# EAGLE library part ISP4520* (library ISP4520)
ISP4520 Combined BLE and LoRa Module Based on the Nordic nRF52832 Bluetooth Low Energy Chip and Semtech SX126x LoRa Transceiver together with Integrated Antennas, matching networks, crystals, DC/DC power supply, NFC and 512kByte Flash and 64kByte SRAM DATASHEET ISP4520xx <https://www.insightsip.com/fichiers_insightsip/pdf/ble/ISP4520/isp_lora_DS4520.pdf>
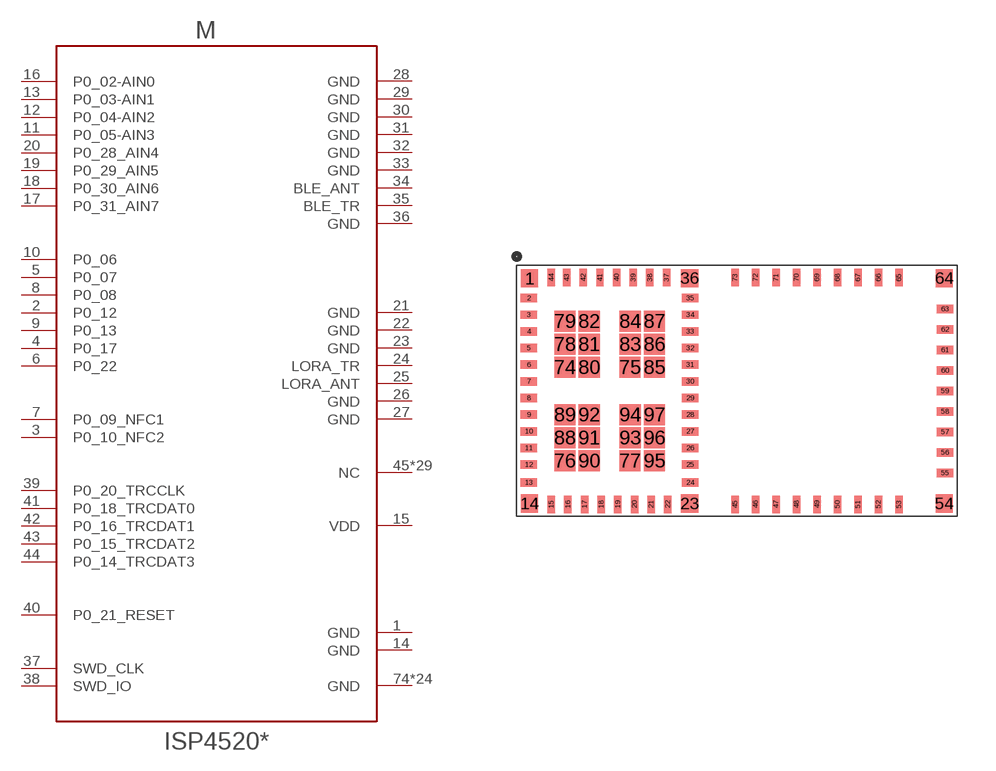
[diagram p0: symbol with the pads of ISP4520-LGA-QFN74-9.8X17.2X1.7MM; footprint ISP4520-LGA-QFN74-9.8X17.2X1.7MM]

Designator prefix M

## ISP4520EU, ISP4520JP, ISP4520US  [ISP4520-LGA-QFN74-9.8X17.2X1.7MM]
1  GND  pwr
2  P0_12
3  P0_10_NFC2
4  P0_17
5  P0_07
6  P0_22
7  P0_09_NFC1
8  P0_08
9  P0_13
10  P0_06
11  P0_05-AIN3
12  P0_04-AIN2
13  P0_03-AIN1
14  GND  pwr
15  VDD  pwr
16  P0_02-AIN0
17  P0_31_AIN7
18  P0_30_AIN6
19  P0_29_AIN5
20  P0_28_AIN4
21  GND  pwr
22  GND  pwr
23  GND  pwr
24  LORA_TR  pwr
25  LORA_ANT  pwr
26  GND  pwr
27  GND  pwr
28  GND  pwr
29  GND  pwr
30  GND  pwr
31  GND  pwr
32  GND  pwr
33  GND  pwr
34  BLE_ANT
35  BLE_TR
36  GND  pwr
37  SWD_CLK
38  SWD_IO
39  P0_20_TRCCLK
40  P0_21_RESET
41  P0_18_TRCDAT0
42  P0_16_TRCDAT1
43  P0_15_TRCDAT2
44  P0_14_TRCDAT3
45  NC  nc
46  NC  nc
47  NC  nc
48  NC  nc
49  NC  nc
50  NC  nc
51  NC  nc
52  NC  nc
53  NC  nc
54  NC  nc
55  NC  nc
56  NC  nc
57  NC  nc
58  NC  nc
59  NC  nc
60  NC  nc
61  NC  nc
62  NC  nc
63  NC  nc
64  NC  nc
65  NC  nc
66  NC  nc
67  NC  nc
68  NC  nc
69  NC  nc
70  NC  nc
71  NC  nc
72  NC  nc
73  NC  nc
74  GND  pwr
75  GND  pwr
76  GND  pwr
77  GND  pwr
78  GND  pwr
79  GND  pwr
80  GND  pwr
81  GND  pwr
82  GND  pwr
83  GND  pwr
84  GND  pwr
85  GND  pwr
86  GND  pwr
87  GND  pwr
88  GND  pwr
89  GND  pwr
90  GND  pwr
91  GND  pwr
92  GND  pwr
93  GND  pwr
94  GND  pwr
95  GND  pwr
96  GND  pwr
97  GND  pwr

## Footprint ISP4520-LGA-QFN74-9.8X17.2X1.7MM (pad centres in mm)
InSight SiP ISL4520 LCC QFN-74 LCC_QFN74_9.8X17.2X1.7MM
smd 0.7 x 0.7: 1 0.5,9.3; 14 0.5,0.5; 23 6.75,0.5; 36 6.75,9.3; 54 16.7,0.5; 64 16.7,9.3
smd 0.65 x 0.3: 2 0.475,8.525; 3 0.475,7.875; 4 0.475,7.225; 5 0.475,6.575; 6 0.475,5.925; 7 0.475,5.275; 8 0.475,4.625; 9 0.475,3.975; 10 0.475,3.325; 11 0.475,2.675; 12 0.475,2.025; 13 0.475,1.325; 24 6.775,1.325; 25 6.775,2.025; 26 6.775,2.675; 27 6.775,3.325; 28 6.775,3.975; 29 6.775,4.625; 30 6.775,5.275; 31 6.775,5.925; 32 6.775,6.575; 33 6.775,7.225; 34 6.775,7.875; 35 6.775,8.525; 55 16.73,1.7; 56 16.73,2.5; 57 16.73,3.3; 58 16.73,4.1; 59 16.725,4.9; 60 16.73,5.7; 61 16.73,6.5; 62 16.73,7.3; 63 16.73,8.1
smd 0.3 x 0.65: 15 1.35,0.475; 16 2,0.475; 17 2.65,0.475; 18 3.3,0.475; 19 3.95,0.475; 20 4.6,0.475; 21 5.25,0.475; 22 5.9,0.475; 37 5.85,9.325; 38 5.2,9.325; 39 4.55,9.325; 40 3.9,9.325; 41 3.25,9.325; 42 2.6,9.325; 43 1.95,9.325; 44 1.35,9.325; 45 8.525,0.475; 46 9.325,0.475; 47 10.125,0.475; 48 10.925,0.475; 49 11.725,0.475; 50 12.525,0.475; 51 13.325,0.475; 52 14.125,0.475; 53 14.925,0.475; 65 14.925,9.325; 66 14.125,9.325; 67 13.325,9.325; 68 12.525,9.325; 69 11.725,9.325; 70 10.925,9.325; 71 10.125,9.325; 72 9.325,9.325; 73 8.525,9.325
smd 0.85 x 0.8: 74 1.88,5.825; 75 4.425,5.825; 76 1.88,2.175; 77 4.425,2.175; 78 1.88,6.725; 79 1.88,7.625; 80 2.83,5.825; 81 2.83,6.725; 82 2.83,7.625; 83 4.43,6.725; 84 4.43,7.625; 85 5.38,5.825; 86 5.38,6.725; 87 5.38,7.625; 88 1.88,3.075; 89 1.88,3.975; 90 2.83,2.175; 91 2.83,3.075; 92 2.83,3.975; 93 4.43,3.075; 94 4.43,3.975; 95 5.38,2.175; 96 5.38,3.075; 97 5.38,3.975